# EAGLE library part IC_74LVC138A (library dp_devices)
3-to-8 line mux SN74LVC138A <http://www.ti.com/lit/ds/scas291v/scas291v.pdf>
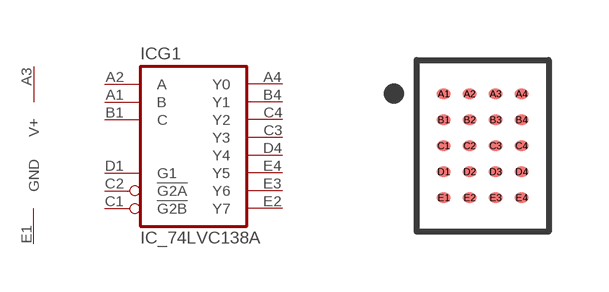
[diagram p144: symbol with the pads of BGA-20; footprint BGA-20]

Designator prefix IC; gates G1=74138 S1=SUPPLY

## IC_74LVC138A  [BGA-20]
A1  G1:B  in
A2  G1:A  in
A3  S1:V+  sup
A4  G1:Y0  out
B1  G1:C  in
B4  G1:Y1  out
C1  G1:!G2B  in
C2  G1:!G2A  in
C3  G1:Y3  out
C4  G1:Y2  out
D1  G1:G1  in
D4  G1:Y4  out
E1  S1:GND  sup
E2  G1:Y7  out
E3  G1:Y6  out
E4  G1:Y5  out

## Footprint BGA-20 (pad centres in mm)
BGA-20 0.65mm pitch
smd 0.343 x 0.254: A1 -0.975,1.3; A2 -0.325,1.3; A3 0.325,1.3; A4 0.975,1.3; B1 -0.975,0.65; B2 -0.325,0.65; B3 0.325,0.65; B4 0.975,0.65; C1 -0.975,0; C2 -0.325,0; C3 0.325,0; C4 0.975,0; D1 -0.975,-0.65; D2 -0.325,-0.65; D3 0.325,-0.65; D4 0.975,-0.65; E1 -0.975,-1.3; E2 -0.325,-1.3; E3 0.325,-1.3; E4 0.975,-1.3